# Altium footprint library RT1052_CORE_P120.PcbLib: 1 footprints
Each footprint in its own frame and in the unit in brackets; x right, y up, seen from the top. Pads: shape width x height; smd on the part's side, far side on the other; paste and mask are expansions set on the pad; w line width, h text height; cw(c..) or ccw(c..) is an arc to the next point about the centre after c.
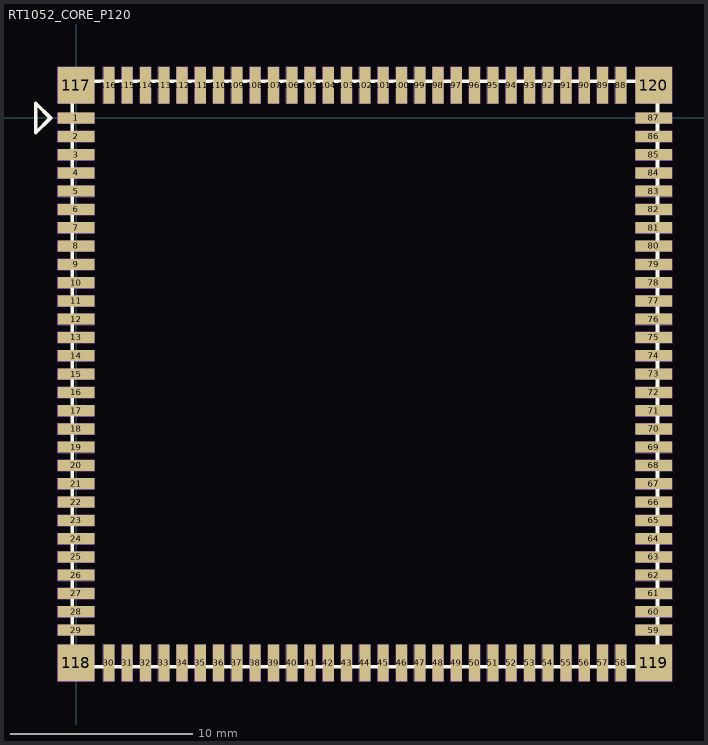
[diagram p0: the footprint, top view; thin cyan lines are the x and y axes]

## RT1052_CORE_P120 [mm]
pads (120):
  rect 2x0.6 smd: 1(0,0) 2(0,-1) 3(0,-2) 4(0,-3) 5(0,-4) 6(0,-5) 7(0,-6) 8(0,-7) 9(0,-8) 10(0,-9) 11(0,-10) 12(0,-11) 13(0,-12) 14(0,-13) 15(0,-14) 16(0,-15) 17(0,-16) 18(0,-17) 19(0,-18) 20(0,-19) 21(0,-20) 22(0,-21) 23(0,-22) 24(0,-23) 25(0,-24) 26(0,-25) 27(0,-26) 28(0,-27) 29(0,-28) 59(31.6,-28) 60(31.6,-27) 61(31.6,-26) 62(31.6,-25) 63(31.6,-24) 64(31.6,-23) 65(31.6,-22) 66(31.6,-21) 67(31.6,-20) 68(31.6,-19) 69(31.6,-18) 70(31.6,-17) 71(31.6,-16) 72(31.6,-15) 73(31.6,-14) 74(31.6,-13) 75(31.6,-12) 76(31.6,-11) 77(31.6,-10) 78(31.6,-9) 79(31.6,-8) 80(31.6,-7) 81(31.6,-6) 82(31.6,-5) 83(31.6,-4) 84(31.6,-3) 85(31.6,-2) 86(31.6,-1) 87(31.6,0)
  rect 0.6x2 smd: 30(1.8,-29.8) 31(2.8,-29.8) 32(3.8,-29.8) 33(4.8,-29.8) 34(5.8,-29.8) 35(6.8,-29.8) 36(7.8,-29.8) 37(8.8,-29.8) 38(9.8,-29.8) 39(10.8,-29.8) 40(11.8,-29.8) 41(12.8,-29.8) 42(13.8,-29.8) 43(14.8,-29.8) 44(15.8,-29.8) 45(16.8,-29.8) 46(17.8,-29.8) 47(18.8,-29.8) 48(19.8,-29.8) 49(20.8,-29.8) 50(21.8,-29.8) 51(22.8,-29.8) 52(23.8,-29.8) 53(24.8,-29.8) 54(25.8,-29.8) 55(26.8,-29.8) 56(27.8,-29.8) 57(28.8,-29.8) 58(29.8,-29.8) 88(29.8,1.8) 89(28.8,1.8) 90(27.8,1.8) 91(26.8,1.8) 92(25.8,1.8) 93(24.8,1.8) 94(23.8,1.8) 95(22.8,1.8) 96(21.8,1.8) 97(20.8,1.8) 98(19.8,1.8) 99(18.8,1.8) 100(17.8,1.8) 101(16.8,1.8) 102(15.8,1.8) 103(14.8,1.8) 104(13.8,1.8) 105(12.8,1.8) 106(11.8,1.8) 107(10.8,1.8) 108(9.8,1.8) 109(8.8,1.8) 110(7.8,1.8) 111(6.8,1.8) 112(5.8,1.8) 113(4.8,1.8) 114(3.8,1.8) 115(2.8,1.8) 116(1.8,1.8)
  rect 2x2 smd: 117(0,1.8) 118(0,-29.8) 119(31.6,-29.8) 120(31.6,1.8)
Top Overlay:
  lines w0.2: -2.2,-0.8 -2.2,0.8 -1.4,0 -2.2,-0.8 ; -0.2,-30 31.8,-30 31.8,2 0.8,2 -0.2,1 -0.2,-30
Mechanical 1:
  drawing of 480 lines, arcs and shapes, not listed